# EAGLE library part ATMEGA32A-PU (library ATMEGA32A-PU)
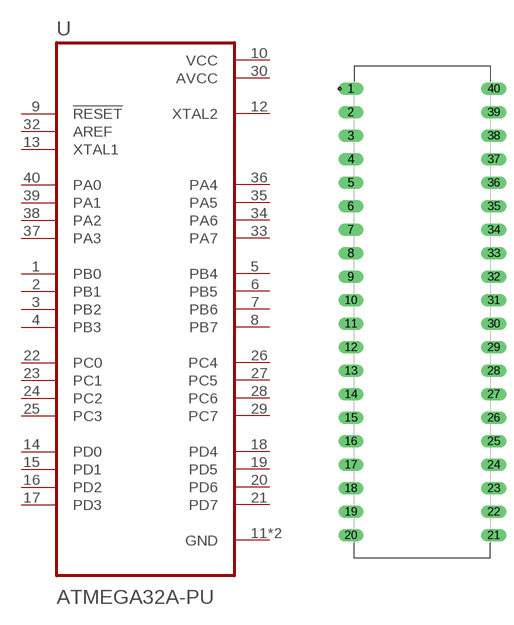
[diagram p0: symbol with the pads of DIP1540W47P254L5320H635Q40B; footprint DIP1540W47P254L5320H635Q40B]

Designator prefix U

## ATMEGA32A-PU (AVAILABILITY: Unavailable; DESCRIPTION: IC MCU 8BIT 32KB FLASH 40DIP; MF: Microchip Technology; MP: ATMEGA32A-PU; PACKAGE: None; PRICE: None)  [DIP1540W47P254L5320H635Q40B]
1  PB0
2  PB1
3  PB2
4  PB3
5  PB4
6  PB5
7  PB6
8  PB7
9  !RESET  in
10  VCC  pwr
11  GND  pwr
12  XTAL2  out
13  XTAL1  in
14  PD0
15  PD1
16  PD2
17  PD3
18  PD4
19  PD5
20  PD6
21  PD7
22  PC0
23  PC1
24  PC2
25  PC3
26  PC4
27  PC5
28  PC6
29  PC7
30  AVCC  pwr
31  GND  pwr
32  AREF  in
33  PA7
34  PA6
35  PA5
36  PA4
37  PA3
38  PA2
39  PA1
40  PA0

## Footprint DIP1540W47P254L5320H635Q40B (pad centres in mm)
drill 0.85 pad 1.28 long: 1 -7.718,24.13; 2 -7.718,21.59; 3 -7.718,19.05; 4 -7.718,16.51; 5 -7.718,13.97; 6 -7.718,11.43; 7 -7.718,8.89; 8 -7.718,6.35; 9 -7.718,3.81; 10 -7.718,1.27; 11 -7.718,-1.27; 12 -7.718,-3.81; 13 -7.718,-6.35; 14 -7.718,-8.89; 15 -7.718,-11.43; 16 -7.718,-13.97; 17 -7.718,-16.51; 18 -7.718,-19.05; 19 -7.718,-21.59; 20 -7.718,-24.13; 21 7.718,-24.13; 22 7.718,-21.59; 23 7.718,-19.05; 24 7.718,-16.51; 25 7.718,-13.97; 26 7.718,-11.43; 27 7.718,-8.89; 28 7.718,-6.35; 29 7.718,-3.81; 30 7.718,-1.27; 31 7.718,1.27; 32 7.718,3.81; 33 7.718,6.35; 34 7.718,8.89; 35 7.718,11.43; 36 7.718,13.97; 37 7.718,16.51; 38 7.718,19.05; 39 7.718,21.59; 40 7.718,24.13